# Altium integrated library supercapacitors.IntLib: 4 symbols
Pins are listed as number, name and electrical type; pins without a type are passive.

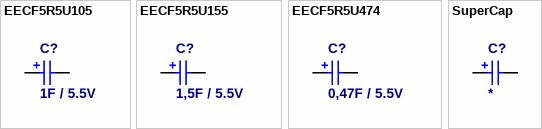
[diagram p0: symbols EECF5R5U105 to SuperCap]

## EECF5R5U105
designator C?, comment 1F / 5.5V
Panasoni 1F, 5V5 Electric Double Layer NF Series Capacitor; ComponentLink1Description: datasheet; ComponentLink2Description: supplier; Value: 1F / 5.5V
simulation model CAP (Default semiconductor capacitor)
footprint EECF5R5U Type B (Panasonic NF Series Electric Double Layer Capacitors (21,5mm DIA, 8mm H, 5mm SPACING))
pins: 1, 2
2 alternate drawings of the same symbol

## EECF5R5U155
designator C?, comment 1,5F / 5.5V
Panasoni 1,5F, 5V5 Electric Double Layer NF Series Capacitor; ComponentLink1Description: datasheet; ComponentLink2Description: supplier; Value: 1,5F / 5.5V
simulation model CAP (Default semiconductor capacitor)
footprint EECF5R5U Type B (Panasonic NF Series Electric Double Layer Capacitors (21,5mm DIA, 8mm H, 5mm SPACING))
pins: 1, 2
2 alternate drawings of the same symbol

## EECF5R5U474
designator C?, comment 0,47F / 5.5V
Panasoni 0,47F, 5V5 Electric Double Layer NF Series Capacitor; ComponentLink1Description: datasheet; ComponentLink2Description: supplier; Value: 0,47F / 5.5V
simulation model CAP (Default semiconductor capacitor)
footprint EECF5R5U Type B (Panasonic NF Series Electric Double Layer Capacitors (21,5mm DIA, 8mm H, 5mm SPACING))
pins: 1, 2
2 alternate drawings of the same symbol

## SuperCap
designator C?
Polarized Super Capacitor; ComponentLink1Description: datasheet; ComponentLink2Description: supplier; Value: *
simulation model CAP (Default semiconductor capacitor)
footprint EECF5R5U Type B (Panasonic NF Series Electric Double Layer Capacitors (21,5mm DIA, 8mm H, 5mm SPACING))
pins: 1, 2
2 alternate drawings of the same symbol